# Altium footprint library SM_QFN-24Pin-EP.PcbLib: 1 footprints
Each footprint in its own frame and in the unit in brackets; x right, y up, seen from the top. Pads: shape width x height; smd on the part's side, far side on the other; paste and mask are expansions set on the pad; w line width, h text height; cw(c..) or ccw(c..) is an arc to the next point about the centre after c.
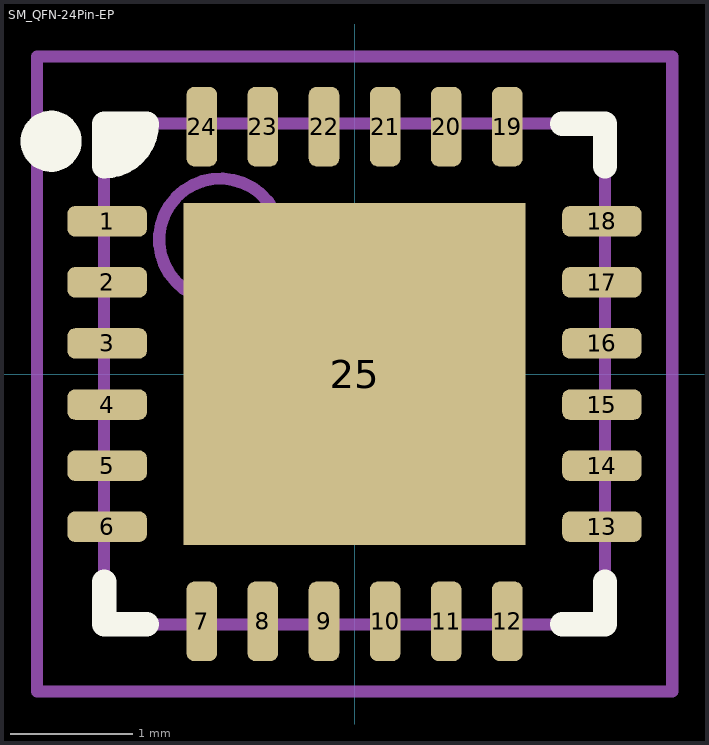
[diagram p0: the footprint, top view; thin cyan lines are the x and y axes]

## SM_QFN-24Pin-EP [mm] "24-QFN Exposed Pad"
pads (25):
  rrect50% 0.65x0.25 smd: 1(-2.025,1.25) 2(-2.025,0.75) 3(-2.025,0.25) 4(-2.025,-0.25) 5(-2.025,-0.75) 6(-2.025,-1.25) 13(2.025,-1.25) 14(2.025,-0.75) 15(2.025,-0.25) 16(2.025,0.25) 17(2.025,0.75) 18(2.025,1.25)
  rrect50% 0.25x0.65 smd: 7(-1.25,-2.025) 8(-0.75,-2.025) 9(-0.25,-2.025) 10(0.25,-2.025) 11(0.75,-2.025) 12(1.25,-2.025) 19(1.25,2.025) 20(0.75,2.025) 21(0.25,2.025) 22(-0.25,2.025) 23(-0.75,2.025) 24(-1.25,2.025)
  rect 2.8x2.8 smd: 25(0,0)
Top Overlay:
  circle w0.25: c-2.484,1.905 r0.125
  region: -2.05,2.05 -1.7,2.05 -1.7,1.9 -1.9,1.7 -2.05,1.7
  lines w0.2: -2.05,-1.7 -2.05,-2.05 -1.7,-2.05 ; 1.7,-2.05 2.05,-2.05 2.05,-1.7 ; 1.7,2.05 2.05,2.05 2.05,1.7 ; -2.05,1.7 ccw(c-2.05,2.05) -1.7,2.05 -2.05,2.05 -2.05,1.7
Mechanical 13:
  circle w0.1: c-1.1,1.1 r0.5
  lines w0.1: -2.05,-2.05 2.05,-2.05 2.05,2.05 -2.05,2.05 -2.05,-2.05
Mechanical 15:
  lines w0.1: -0.5,0 0.5,0 ; 0,-0.5 0,0.5 ; -2.6,-2.6 2.6,-2.6 2.6,2.6 -2.6,2.6 -2.6,-2.6
3D body: height 0.95, standoff 0, extent -2.05,-2.05 2.05,2.05